# Altium schematic symbol library MCU_WCH_CH32V3.SchLib: 5 symbols
Pins are listed as number, name and electrical type; pins without a type are passive.

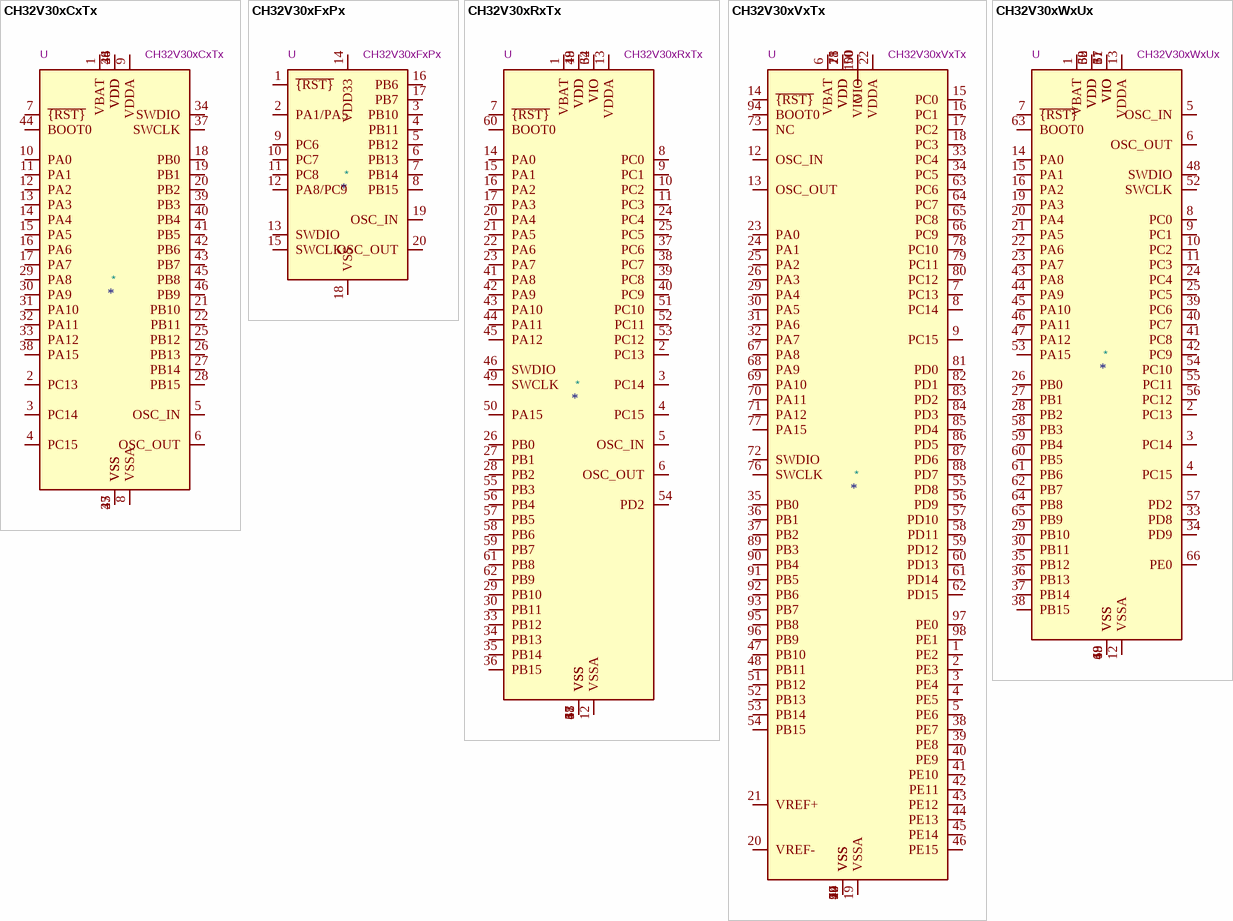
[diagram p0: symbols CH32V30xCxTx to CH32V30xWxUx]

## CH32V30xCxTx
designator *  value CH32V30xCxTx  Reference: U
The CH32V303/5/7 is an connectivity MCUs based on 32-bit RISC-V core.; ki_keywords: RISC-V WCH MCU; ki_fp_filters: LQFP*7x7mm*P0.5mm*; Footprint: Package_QFP:LQFP-48_7x7mm_P0.5mm; Datasheet: http://www.wch-ic.com/products/CH32V307.html?; Description_: The CH32V303/5/7 is an connectivity MCUs based on 32-bit RISC-V core.
pins: 1 VBAT, 2 PC13, 3 PC14, 4 PC15, 5 OSC_IN, 6 OSC_OUT, 7 ~{{RST}}, 8 VSSA, 9 VDDA, 10 PA0, 11 PA1, 12 PA2, 13 PA3, 14 PA4, 15 PA5, 16 PA6, 17 PA7, 18 PB0, 19 PB1, 20 PB2, 21 PB10, 22 PB11, 23 VSS, 24 VDD, 25 PB12, 26 PB13, 27 PB14, 28 PB15, 29 PA8, 30 PA9, 31 PA10, 32 PA11, 33 PA12, 34 SWDIO, 35 VSS, 36 VDD, 37 SWCLK, 38 PA15, 39 PB3, 40 PB4, 41 PB5, 42 PB6, 43 PB7, 44 BOOT0, 45 PB8, 46 PB9, 47 VSS, 48 VDD

## CH32V30xFxPx
designator *  value CH32V30xFxPx  Reference: U
The CH32V303/5/7 is an connectivity MCUs based on 32-bit RISC-V core.; ki_keywords: RISC-V WCH MCU; ki_fp_filters: TSSOP*4.4x6.5mm*P0.65mm*; Footprint: Package_SO:TSSOP-20_4.4x6.5mm_P0.65mm; Datasheet: http://www.wch-ic.com/products/CH32V307.html?; Description_: The CH32V303/5/7 is an connectivity MCUs based on 32-bit RISC-V core.
pins: 1 ~{{RST}}, 2 PA1/PA5, 3 PB10, 4 PB11, 5 PB12, 6 PB13, 7 PB14, 8 PB15, 9 PC6, 10 PC7, 11 PC8, 12 PA8/PC9, 13 SWDIO, 14 VDD33, 15 SWCLK, 16 PB6, 17 PB7, 18 VSS, 19 OSC_IN, 20 OSC_OUT

## CH32V30xRxTx
designator *  value CH32V30xRxTx  Reference: U
The CH32V303/5/7 is an connectivity MCUs based on 32-bit RISC-V core.; ki_keywords: RISC-V WCH MCU; ki_fp_filters: LQFP*10x10mm*P0.5mm*; Footprint: Package_QFP:LQFP-64_10x10mm_P0.5mm; Datasheet: http://www.wch-ic.com/products/CH32V307.html?; Description_: The CH32V303/5/7 is an connectivity MCUs based on 32-bit RISC-V core.
pins: 1 VBAT, 2 PC13, 3 PC14, 4 PC15, 5 OSC_IN, 6 OSC_OUT, 7 ~{{RST}}, 8 PC0, 9 PC1, 10 PC2, 11 PC3, 12 VSSA, 13 VDDA, 14 PA0, 15 PA1, 16 PA2, 17 PA3, 18 VSS, 19 VDD, 20 PA4, 21 PA5, 22 PA6, 23 PA7, 24 PC4, 25 PC5, 26 PB0, 27 PB1, 28 PB2, 29 PB10, 30 PB11, 31 VSS, 32 VIO, 33 PB12, 34 PB13, 35 PB14, 36 PB15, 37 PC6, 38 PC7, 39 PC8, 40 PC9, 41 PA8, 42 PA9, 43 PA10, 44 PA11, 45 PA12, 46 SWDIO, 47 VSS, 48 VDD, 49 SWCLK, 50 PA15, 51 PC10, 52 PC11, 53 PC12, 54 PD2, 55 PB3, 56 PB4, 57 PB5, 58 PB6, 59 PB7, 60 BOOT0, 61 PB8, 62 PB9, 63 VSS, 64 VIO

## CH32V30xVxTx
designator *  value CH32V30xVxTx  Reference: U
The CH32V303/5/7 is an connectivity MCUs based on 32-bit RISC-V core.; ki_keywords: RISC-V WCH MCU; ki_fp_filters: LQFP*14x14mm*P0.5mm*; Footprint: Package_QFP:LQFP-100_14x14mm_P0.5mm; Datasheet: http://www.wch-ic.com/products/CH32V307.html?; Description_: The CH32V303/5/7 is an connectivity MCUs based on 32-bit RISC-V core.
pins: 1 PE2, 2 PE3, 3 PE4, 4 PE5, 5 PE6, 6 VBAT, 7 PC13, 8 PC14, 9 PC15, 10 VSS, 11 VDD, 12 OSC_IN, 13 OSC_OUT, 14 ~{{RST}}, 15 PC0, 16 PC1, 17 PC2, 18 PC3, 19 VSSA, 20 VREF-, 21 VREF+, 22 VDDA, 23 PA0, 24 PA1, 25 PA2, 26 PA3, 27 VSS, 28 VDD, 29 PA4, 30 PA5, 31 PA6, 32 PA7, 33 PC4, 34 PC5, 35 PB0, 36 PB1, 37 PB2, 38 PE7, 39 PE8, 40 PE9, 41 PE10, 42 PE11, 43 PE12, 44 PE13, 45 PE14, 46 PE15, 47 PB10, 48 PB11, 49 VSS, 50 VIO, 51 PB12, 52 PB13, 53 PB14, 54 PB15, 55 PD8, 56 PD9, 57 PD10, 58 PD11, 59 PD12, 60 PD13, 61 PD14, 62 PD15, 63 PC6, 64 PC7, 65 PC8, 66 PC9, 67 PA8, 68 PA9, 69 PA10, 70 PA11, 71 PA12, 72 SWDIO, 73 NC, 74 VSS, 75 VDD, 76 SWCLK, 77 PA15, 78 PC10, 79 PC11, 80 PC12, 81 PD0, 82 PD1, 83 PD2, 84 PD3, 85 PD4, 86 PD5, 87 PD6, 88 PD7, 89 PB3, 90 PB4, 91 PB5, 92 PB6, 93 PB7, 94 BOOT0, 95 PB8, 96 PB9, 97 PE0, 98 PE1, 99 VSS, 100 VIO

## CH32V30xWxUx
designator *  value CH32V30xWxUx  Reference: U
The CH32V303/5/7 is an connectivity MCUs based on 32-bit RISC-V core.; ki_keywords: RISC-V WCH MCU; ki_fp_filters: QFN*8x8mm*P0.4mm*; Footprint: Package_DFN_QFN:QFN-68-1EP_8x8mm_P0.4mm_EP6.4x6.4mm; Datasheet: http://www.wch-ic.com/products/CH32V307.html?; Description_: The CH32V303/5/7 is an connectivity MCUs based on 32-bit RISC-V core.
pins: 1 VBAT, 2 PC13, 3 PC14, 4 PC15, 5 OSC_IN, 6 OSC_OUT, 7 ~{{RST}}, 8 PC0, 9 PC1, 10 PC2, 11 PC3, 12 VSSA, 13 VDDA, 14 PA0, 15 PA1, 16 PA2, 17 VIO, 18 VSS, 19 PA3, 20 PA4, 21 PA5, 22 PA6, 23 PA7, 24 PC4, 25 PC5, 26 PB0, 27 PB1, 28 PB2, 29 PB10, 30 PB11, 31 VIO, 32 VDD, 33 PD8, 34 PD9, 35 PB12, 36 PB13, 37 PB14, 38 PB15, 39 PC6, 40 PC7, 41 PC8, 42 PC9, 43 PA8, 44 PA9, 45 PA10, 46 PA11, 47 PA12, 48 SWDIO, 49 VSS, 50 VDD, 51 VIO, 52 SWCLK, 53 PA15, 54 PC10, 55 PC11, 56 PC12, 57 PD2, 58 PB3, 59 PB4, 60 PB5, 61 PB6, 62 PB7, 63 BOOT0, 64 PB8, 65 PB9, 66 PE0, 67 VIO, 68 VDD, 69 VSS